# Altium schematic symbol library CN_BAT_CLIP_2CELLS.SchLib: 1 symbol
Pins are listed as number, name and electrical type; pins without a type are passive.

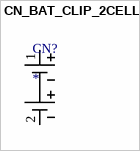
[diagram p0: symbol CN_BAT_CLIP_2CELLS]

## CN_BAT_CLIP_2CELLS
designator CN?
pins: 1 +, 2 -